# Altium schematic symbol library SCH - POWER - SWITCHMODE - TI TPS65194RGE.SchLib: 1 symbol
Pins are listed as number, name and electrical type; pins without a type are passive.

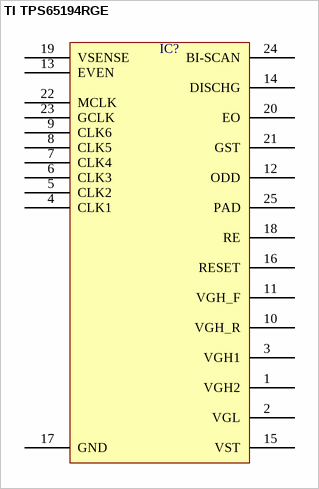
[diagram p0: symbol TI TPS65194RGE]

## TI TPS65194RGE
designator IC?  (value not drawn)
pins: 1 VGH2, 2 VGL, 3 VGH1, 4 CLK1, 5 CLK2, 6 CLK3, 7 CLK4, 8 CLK5, 9 CLK6, 10 VGH_R, 11 VGH_F, 12 ODD, 13 EVEN, 14 DISCHG, 15 VST, 16 RESET, 17 GND, 18 RE, 19 VSENSE, 20 EO, 21 GST, 22 MCLK, 23 GCLK, 24 BI-SCAN, 25 PAD